# EAGLE library part ACS723LLCTR-05AB-T (library ACS723LLCTR-05AB-T)
High Accuracy, Galvanically Isolated Current Sensor IC With Small Footprint SOIC8 Package Check prices <https://pricing.snapeda.com/parts/ACS723LLCTR-05AB-T/ALPS/view-part?ref=eda>
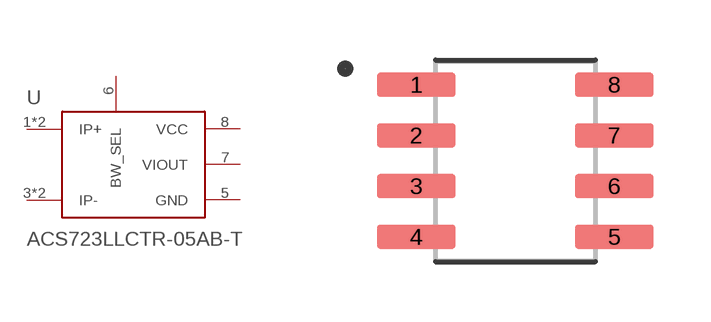
[diagram p0: symbol with the pads of SOIC127P600X175-8N; footprint SOIC127P600X175-8N]

Designator prefix U

## ACS723LLCTR-05AB-T (AVAILABILITY: Warning; DESCRIPTION: Current Sensor 5A 1 Channel Hall Effect, Open Loop Bidirectional 8-SOIC (0.154, 3.90mm Width); MF: ALPS; MP: ACS723LLCTR-05AB-T; PACKAGE: SOIC-8 Allegro MicroSystems; PRICE: None; PURCHASE-URL: https://pricing.snapeda.com/search/part/ACS723LLCTR-05AB-T/?ref=eda)  [SOIC127P600X175-8N]
1  IP+  pas
2  IP+  pas
3  IP-  pas
4  IP-  pas
5  GND  pwr
6  BW_SEL  in
7  VIOUT  out
8  VCC  pwr

## Footprint SOIC127P600X175-8N (pad centres in mm)
smd 1.97 x 0.6: 1 -2.475,1.905; 2 -2.475,0.635; 3 -2.475,-0.635; 4 -2.475,-1.905; 5 2.475,-1.905; 6 2.475,-0.635; 7 2.475,0.635; 8 2.475,1.905